# EAGLE library part PBU4U_S (library switch-e-switch)
4PDT PUSHBUTTON SWITCH
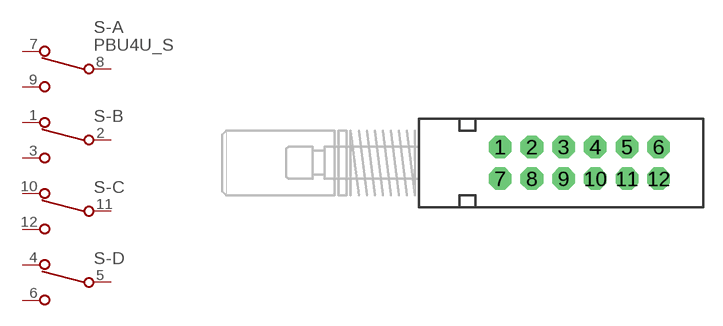
[diagram p9: symbol with the pads of PBH4U; footprint PBH4U]

Designator prefix S; gates -A=1PDT-NV -B=1PDT-N -C=1PDT-N -D=1PDT-N

## PBU4U_S  [PBH4U]
1  -B:A-NC  pas
2  -B:A-COM  pas
3  -B:A-NO  pas
4  -D:A-NC  pas
5  -D:A-COM  pas
6  -D:A-NO  pas
7  -A:A-NC  pas
8  -A:A-COM  pas
9  -A:A-NO  pas
10  -C:A-NC  pas
11  -C:A-COM  pas
12  -C:A-NO  pas

## Footprint PBH4U (pad centres in mm)
Pushbutton Switch PBH Series
drill 0.711 pad 1.778 octagon: 1 -2.5,1.25; 2 0,1.25; 3 2.5,1.25; 4 5,1.25; 5 7.5,1.25; 6 10,1.25; 7 -2.5,-1.25; 8 0,-1.25; 9 2.5,-1.25; 10 5,-1.25; 11 7.5,-1.25; 12 10,-1.25